# EAGLE library part ADXRS_BREAKOUT_HEADER (library m_misc)
ADXRS Breakout Header Standard 7-pin 0.1" header used with SparkFun Electronics' ADXRS series breakout boards.
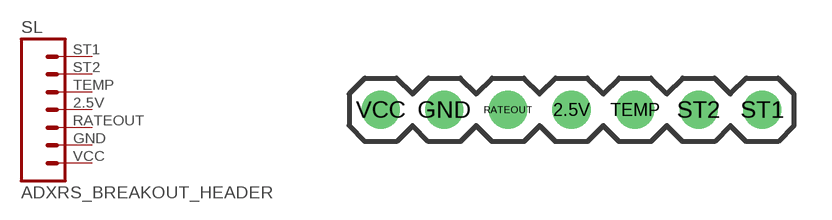
[diagram p5: symbol with the pads of 1X07; footprint 1X07]

Designator prefix SL

## ADXRS_BREAKOUT_HEADER  [1X07]
2.5V  2.5V
GND  GND  pwr
RATEOUT  RATEOUT
ST1  ST1
ST2  ST2
TEMP  TEMP
VCC  VCC  pwr

## Footprint 1X07 (pad centres in mm)
drill 1.016: 2.5V 7.62,0; GND 2.54,0; RATEOUT 5.08,0; ST1 15.24,0; ST2 12.7,0; TEMP 10.16,0; VCC 0,0